# EAGLE library part FDC6420C (library mosfet)
N+P channel mosfets MAX DS voltage 20 V, sot23-6
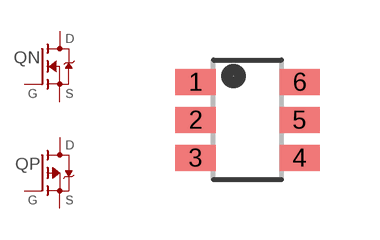
[diagram p5: symbol with the pads of SOT23-6; footprint SOT23-6]

Designator prefix Q; gates N=N-MOSFET P=P-MOSFET

## FDC6420C (MANF: VBSEMI; MANF#: FDC6420C; PACKAGE: SOT23-6)  [SOT23-6]
1  N:G  pas
2  P:S  pas
3  P:G  pas
4  P:D  pas
5  N:S  pas
6  N:D  pas

## Footprint SOT23-6 (pad centres in mm)
smd 1 x 0.65: 1 -1.3,0.95; 2 -1.3,0; 3 -1.3,-0.95; 4 1.3,-0.95; 5 1.3,0; 6 1.3,0.95